# EAGLE library part LASER_SLIDER (library modular_robotics)
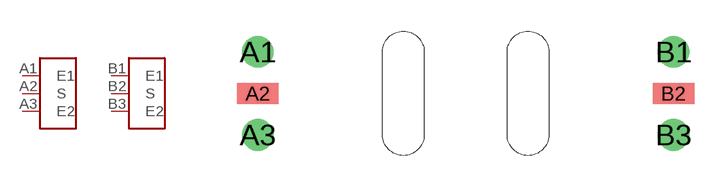
[diagram p14: symbol with the pads of LASER_SCANNER; footprint LASER_SCANNER]

Designator prefix -; gates A=LASER_SLIDER B=LASER_SLIDER

## LASER_SLIDER  [LASER_SCANNER]
A1  A:E1
A2  A:S
A3  A:E2
B1  B:E1
B2  B:S
B3  B:E2

## Footprint LASER_SCANNER (pad centres in mm)
drill 1.016: A1 -10,2; A3 -10,-2; B1 10,2; B3 10,-2
smd 2 x 1: A2 -10,0; B2 10,0